# Altium integrated library Linear Technology Operational Amplifiers (LT1000).IntLib: 2280 symbols (part 19 of 79)
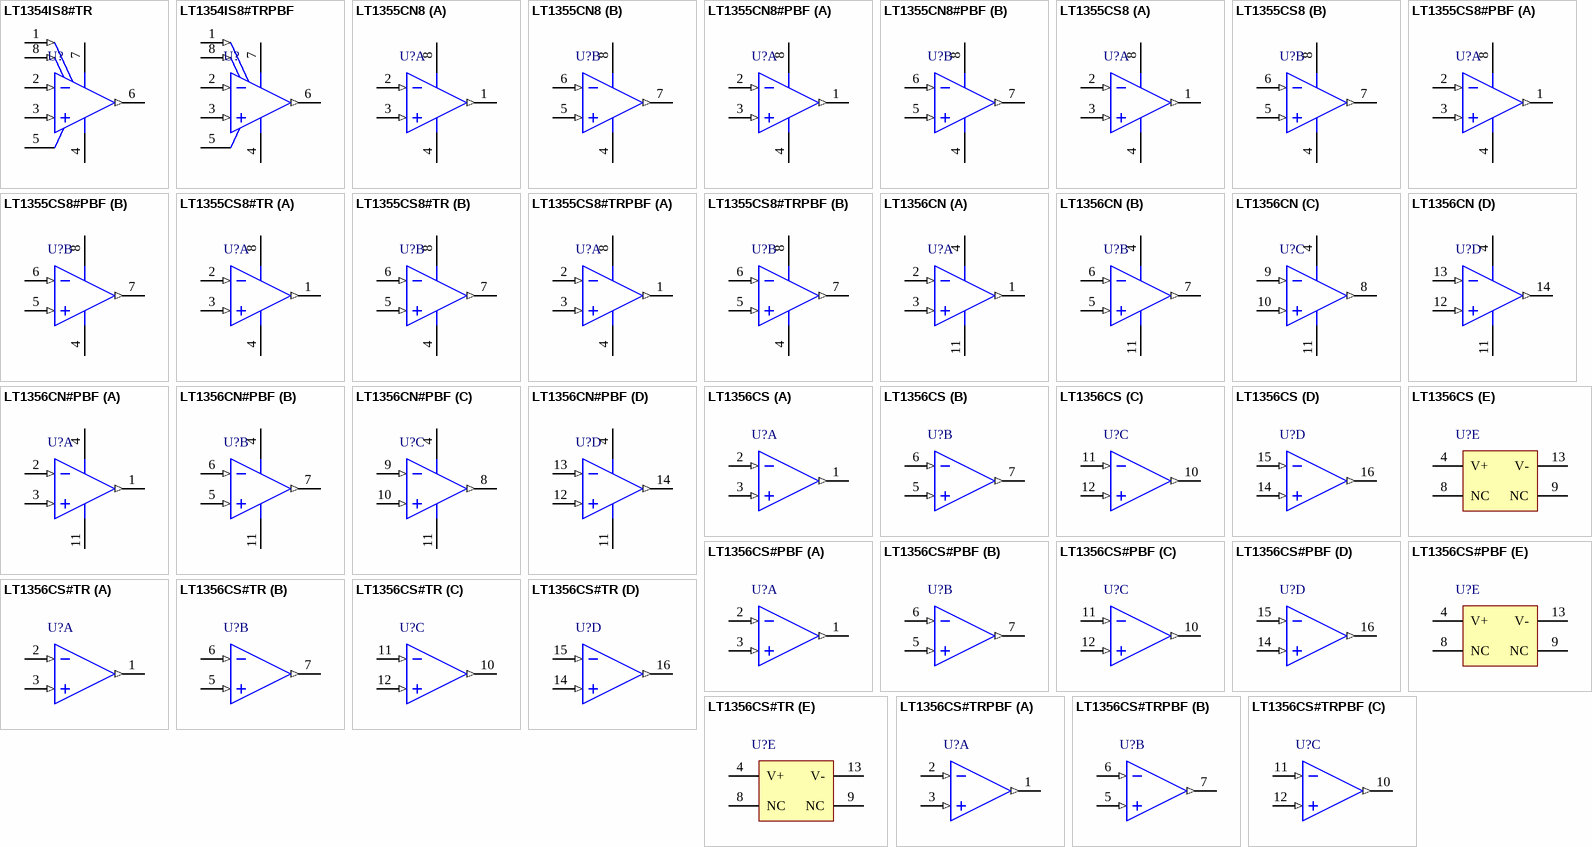
[diagram p123: symbols LT1354IS8#TR to LT1356CS#TRPBF]

## LT1356CN#PBF
designator U?
Quad Channel, High Speed Precision Operational Amplifier, 12 MHz Typical GBW, 400 V/us Typical SR, 5 to 36 V, 14-Pin DIP (N-14), Commerical, Pb-Free; Linear Technology Part Number: LT1356; Manufacturer: Linear Technology; PartNumber: LT1356CN#PBF; Channels (#): 4; GBW (MHz) Typical: 12; Is (mA) Typical: 1; SR (V/us) Typical: 400; Vos (mV) Typical: 0.8; Vs Max (V): 36; Vs Min (V): 5; DatasheetVersion: Rev. C; PackageVersion: Rev I; PackageReference: LT-N-14; PackageDescription: 14-Lead PDIP, Body 19.558 x 6.477 mm, Pitch 2.54 mm; Supplier 1: Digi-Key; Supplier Part Number 1: LT1356CN#PBF-ND; Supplier 2: Newark; Supplier Part Number 2: 57M3441; RoHS: Pb-Free; Type: VFB; Mounting Technology: Through Hole; ComponentLink1Description: Manufacturer URL; ComponentLink1URL: http://www.linear.com/; ComponentLink2Description: Datasheet; ComponentLink2URL: http://cds.linear.com/docs/en/datasheet/13556fc.pdf; ComponentLink3Description: Package Specification; ComponentLink3URL: http://cds.linear.com/docs/en/packaging/05081510_I_N14.pdf
footprint LT-N-14 (DIP, 14-Leads, Body 19.558x6.477mm, Pitch 2.54mm)
pins on every part: 4 V+ (power), 11 V- (power)
part A pins: 1 OUT A (out), 2 -IN A (in), 3 +IN A (in)
part B pins: 5 +IN B (in), 6 -IN B (in), 7 OUT B (out)
part C pins: 8 OUT C (out), 9 -IN C (in), 10 +IN C (in)
part D pins: 12 +IN D (in), 13 -IN D (in), 14 OUT D (out)

## LT1356CS
designator U?
Quad Channel, High Speed Precision Operational Amplifier, 12 MHz Typical GBW, 400 V/us Typical SR, 5 to 36 V, 16-Pin SOIC (S-16), Commercial; Linear Technology Part Number: LT1356; Manufacturer: Linear Technology; PartNumber: LT1356CS; Channels (#): 4; GBW (MHz) Typical: 12; Is (mA) Typical: 1; SR (V/us) Typical: 400; Vos (mV) Typical: 0.8; Vs Max (V): 36; Vs Min (V): 5; DatasheetVersion: Rev. C; PackageVersion: Rev G; PackageReference: LT-S-16; PackageDescription: 16-Lead Plastic Small Outline, Body 9.9 x 3.9 mm, Pitch 1.27 mm; Supplier 1: Digi-Key; Supplier Part Number 1: LT1356CS-ND; Supplier 2: Newark; Supplier Part Number 2: 57M3442; Type: VFB; Mounting Technology: Surface Mount; ComponentLink1Description: Manufacturer URL; ComponentLink1URL: http://www.linear.com/; ComponentLink2Description: Datasheet; ComponentLink2URL: http://cds.linear.com/docs/en/datasheet/13556fc.pdf; ComponentLink3Description: Package Specification; ComponentLink3URL: http://cds.linear.com/docs/en/packaging/S16%2005-08-1610%20Rev%20G.pdf
footprint LT-S-16_N (SOP, 16-Leads, Body 9.9x3.9mm, Pitch 1.27mm, IPC Medium Density)
footprint LT-S-16_L (SOP, 16-Leads, Body 9.9x3.9mm, Pitch 1.27mm, IPC High Density)
footprint LT-S-16_M (SOP, 16-Leads, Body 9.9x3.9mm, Pitch 1.27mm, IPC Low Density)
part A pins: 1 OUT A (out), 2 -IN A (in), 3 +IN A (in)
part B pins: 5 +IN B (in), 6 -IN B (in), 7 OUT B (out)
part C pins: 10 OUT C (out), 11 -IN C (in), 12 +IN C (in)
part D pins: 14 +IN D (in), 15 -IN D (in), 16 OUT D (out)
part E pins: 4 V+ (power), 8 NC, 9 NC, 13 V- (power)

## LT1356CS#PBF
designator U?
Quad Channel, High Speed Precision Operational Amplifier, 12 MHz Typical GBW, 400 V/us Typical SR, 5 to 36 V, 16-Pin SOP (S-16), Commercial, Pb-Free; Linear Technology Part Number: LT1356; Manufacturer: Linear Technology; PartNumber: LT1356CS#PBF; Channels (#): 4; GBW (MHz) Typical: 12; Is (mA) Typical: 1; SR (V/us) Typical: 400; Vos (mV) Typical: 0.8; Vs Max (V): 36; Vs Min (V): 5; DatasheetVersion: Rev. C; PackageVersion: Rev G; PackageReference: LT-S-16; PackageDescription: 16-Lead Plastic Small Outline, Body 9.9 x 3.9 mm, Pitch 1.27 mm; Supplier 1: Digi-Key; Supplier Part Number 1: LT1356CS#PBF-ND; Supplier 2: Farnell; Supplier Part Number 2: 2238151; Supplier 3: Newark; Supplier Part Number 3: 57M3443; RoHS: Pb-Free; Type: VFB; Mounting Technology: Surface Mount; ComponentLink1Description: Manufacturer URL; ComponentLink1URL: http://www.linear.com/; ComponentLink2Description: Datasheet; ComponentLink2URL: http://cds.linear.com/docs/en/datasheet/13556fc.pdf; ComponentLink3Description: Package Specification; ComponentLink3URL: http://cds.linear.com/docs/en/packaging/S16%2005-08-1610%20Rev%20G.pdf
footprint LT-S-16_N (SOP, 16-Leads, Body 9.9x3.9mm, Pitch 1.27mm, IPC Medium Density)
footprint LT-S-16_L (SOP, 16-Leads, Body 9.9x3.9mm, Pitch 1.27mm, IPC High Density)
footprint LT-S-16_M (SOP, 16-Leads, Body 9.9x3.9mm, Pitch 1.27mm, IPC Low Density)
part A pins: 1 OUT A (out), 2 -IN A (in), 3 +IN A (in)
part B pins: 5 +IN B (in), 6 -IN B (in), 7 OUT B (out)
part C pins: 10 OUT C (out), 11 -IN C (in), 12 +IN C (in)
part D pins: 14 +IN D (in), 15 -IN D (in), 16 OUT D (out)
part E pins: 4 V+ (power), 8 NC, 9 NC, 13 V- (power)

## LT1356CS#TR
designator U?
Quad Channel, High Speed Precision Operational Amplifier, 12 MHz Typical GBW, 400 V/us Typical SR, 5 to 36 V, 16-Pin SOIC (S-16), Commercial, Reel; Linear Technology Part Number: LT1356; Manufacturer: Linear Technology; PartNumber: LT1356CS#TR; Channels (#): 4; GBW (MHz) Typical: 12; Is (mA) Typical: 1; SR (V/us) Typical: 400; Vos (mV) Typical: 0.8; Vs Max (V): 36; Vs Min (V): 5; DatasheetVersion: Rev. C; PackageVersion: Rev G; PackageReference: LT-S-16; PackageDescription: 16-Lead Plastic Small Outline, Body 9.9 x 3.9 mm, Pitch 1.27 mm; Supplier 1: Digi-Key; Supplier Part Number 1: LT1356CS#TR-ND; Packing: Reel; Type: VFB; Mounting Technology: Surface Mount; ComponentLink1Description: Manufacturer URL; ComponentLink1URL: http://www.linear.com/; ComponentLink2Description: Datasheet; ComponentLink2URL: http://cds.linear.com/docs/en/datasheet/13556fc.pdf; ComponentLink3Description: Package Specification; ComponentLink3URL: http://cds.linear.com/docs/en/packaging/S16%2005-08-1610%20Rev%20G.pdf
footprint LT-S-16_N (SOP, 16-Leads, Body 9.9x3.9mm, Pitch 1.27mm, IPC Medium Density)
footprint LT-S-16_L (SOP, 16-Leads, Body 9.9x3.9mm, Pitch 1.27mm, IPC High Density)
footprint LT-S-16_M (SOP, 16-Leads, Body 9.9x3.9mm, Pitch 1.27mm, IPC Low Density)
part A pins: 1 OUT A (out), 2 -IN A (in), 3 +IN A (in)
part B pins: 5 +IN B (in), 6 -IN B (in), 7 OUT B (out)
part C pins: 10 OUT C (out), 11 -IN C (in), 12 +IN C (in)
part D pins: 14 +IN D (in), 15 -IN D (in), 16 OUT D (out)
part E pins: 4 V+ (power), 8 NC, 9 NC, 13 V- (power)

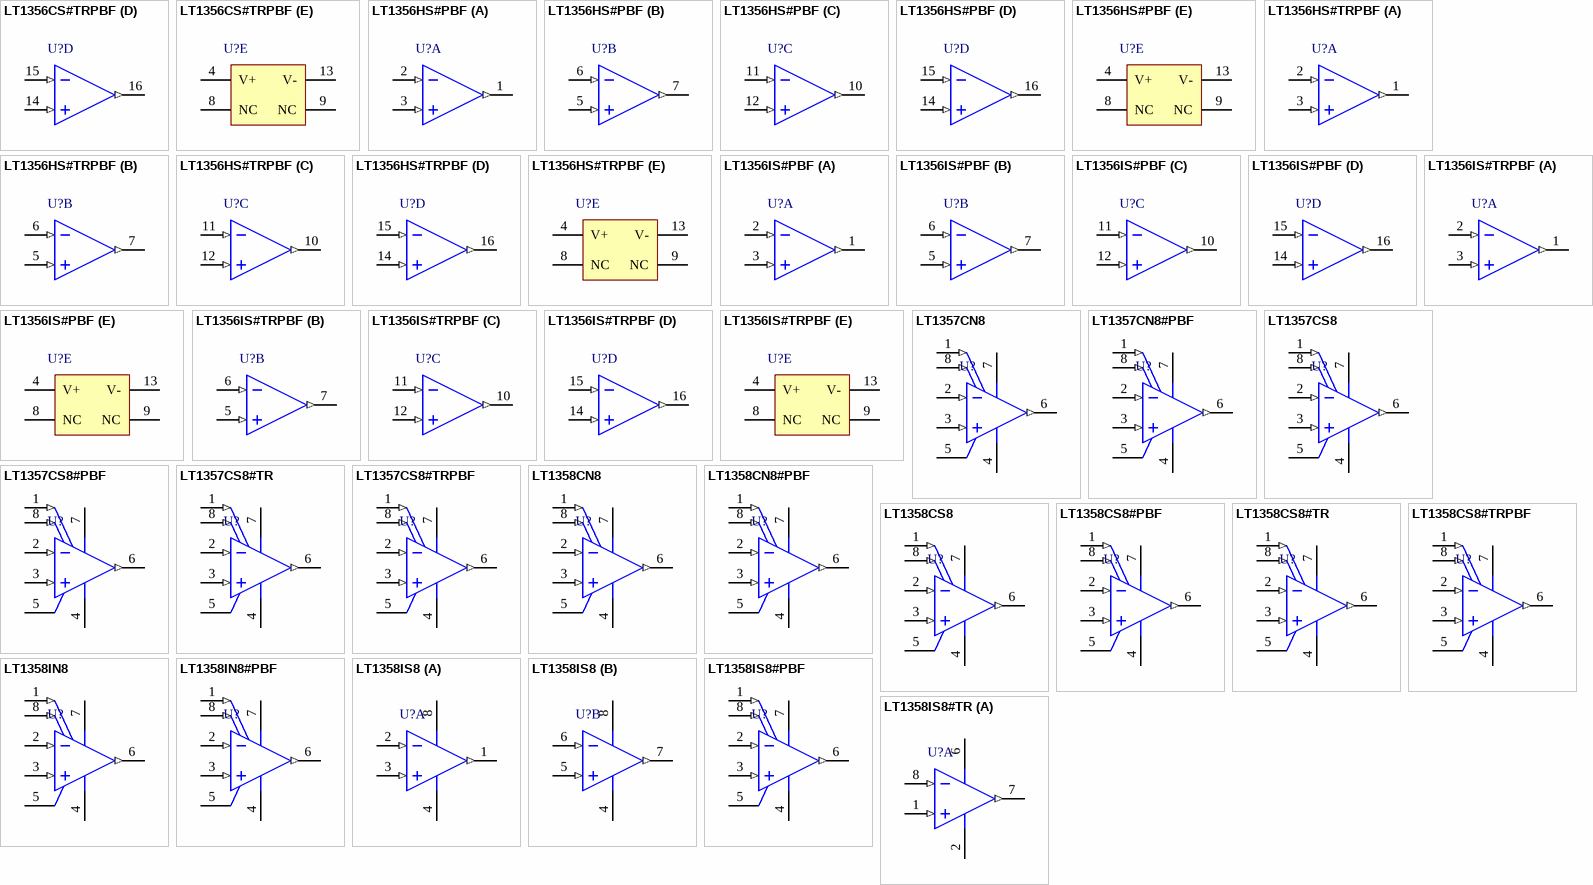
[diagram p27: symbols LT1356CS#TRPBF to LT1358IS8#TR]

## LT1356CS#TRPBF
designator U?
Quad Channel, High Speed Precision Operational Amplifier, 12 MHz Typical GBW, 400 V/us Typical SR, 5 to 36 V, 16-Pin SOIC (S-16), Commercial, Pb-Free, Reel; Linear Technology Part Number: LT1356; Manufacturer: Linear Technology; PartNumber: LT1356CS#TRPBF; Channels (#): 4; GBW (MHz) Typical: 12; Is (mA) Typical: 1; SR (V/us) Typical: 400; Vos (mV) Typical: 0.8; Vs Max (V): 36; Vs Min (V): 5; DatasheetVersion: Rev. C; PackageVersion: Rev G; PackageReference: LT-S-16; PackageDescription: 16-Lead Plastic Small Outline, Body 9.9 x 3.9 mm, Pitch 1.27 mm; Supplier 1: Digi-Key; Supplier Part Number 1: LT1356CS#TRPBF-ND; Packing: Reel; RoHS: Pb-Free; Type: VFB; Mounting Technology: Surface Mount; ComponentLink1Description: Manufacturer URL; ComponentLink1URL: http://www.linear.com/; ComponentLink2Description: Datasheet; ComponentLink2URL: http://cds.linear.com/docs/en/datasheet/13556fc.pdf; ComponentLink3Description: Package Specification; ComponentLink3URL: http://cds.linear.com/docs/en/packaging/S16%2005-08-1610%20Rev%20G.pdf
footprint LT-S-16_N (SOP, 16-Leads, Body 9.9x3.9mm, Pitch 1.27mm, IPC Medium Density)
footprint LT-S-16_L (SOP, 16-Leads, Body 9.9x3.9mm, Pitch 1.27mm, IPC High Density)
footprint LT-S-16_M (SOP, 16-Leads, Body 9.9x3.9mm, Pitch 1.27mm, IPC Low Density)
part A pins: 1 OUT A (out), 2 -IN A (in), 3 +IN A (in)
part B pins: 5 +IN B (in), 6 -IN B (in), 7 OUT B (out)
part C pins: 10 OUT C (out), 11 -IN C (in), 12 +IN C (in)
part D pins: 14 +IN D (in), 15 -IN D (in), 16 OUT D (out)
part E pins: 4 V+ (power), 8 NC, 9 NC, 13 V- (power)

## LT1356HS#PBF
designator U?
Quad Channel, High Speed Precision Operational Amplifier, 12 MHz Typical GBW, 400 V/us Typical SR, 5 to 36 V, 16-Pin SOIC (S-16), High Temperature / Automotive, Pb-Free; Linear Technology Part Number: LT1356; Manufacturer: Linear Technology; PartNumber: LT1356HS#PBF; Channels (#): 4; GBW (MHz) Typical: 12; Is (mA) Typical: 1; SR (V/us) Typical: 400; Vos (mV) Typical: 0.8; Vs Max (V): 36; Vs Min (V): 5; DatasheetVersion: Rev. C; PackageVersion: Rev G; PackageReference: LT-S-16; PackageDescription: 16-Lead Plastic Small Outline, Body 9.9 x 3.9 mm, Pitch 1.27 mm; Supplier 1: Digi-Key; Supplier Part Number 1: LT1356HS#PBF-ND; Supplier 2: Newark; Supplier Part Number 2: 94T1333; RoHS: Pb-Free; Type: VFB; Mounting Technology: Surface Mount; ComponentLink1Description: Manufacturer URL; ComponentLink1URL: http://www.linear.com/; ComponentLink2Description: Datasheet; ComponentLink2URL: http://cds.linear.com/docs/en/datasheet/13556fc.pdf; ComponentLink3Description: Package Specification; ComponentLink3URL: http://cds.linear.com/docs/en/packaging/S16%2005-08-1610%20Rev%20G.pdf
footprint LT-S-16_N (SOP, 16-Leads, Body 9.9x3.9mm, Pitch 1.27mm, IPC Medium Density)
footprint LT-S-16_L (SOP, 16-Leads, Body 9.9x3.9mm, Pitch 1.27mm, IPC High Density)
footprint LT-S-16_M (SOP, 16-Leads, Body 9.9x3.9mm, Pitch 1.27mm, IPC Low Density)
part A pins: 1 OUT A (out), 2 -IN A (in), 3 +IN A (in)
part B pins: 5 +IN B (in), 6 -IN B (in), 7 OUT B (out)
part C pins: 10 OUT C (out), 11 -IN C (in), 12 +IN C (in)
part D pins: 14 +IN D (in), 15 -IN D (in), 16 OUT D (out)
part E pins: 4 V+ (power), 8 NC, 9 NC, 13 V- (power)

## LT1356HS#TRPBF
designator U?
Quad Channel, High Speed Precision Operational Amplifier, 12 MHz Typical GBW, 400 V/us Typical SR, 5 to 36 V, 16-Pin SOIC (S-16), High Temperature / Automotive, Pb-Free, Reel; Linear Technology Part Number: LT1356; Manufacturer: Linear Technology; PartNumber: LT1356HS#TRPBF; Channels (#): 4; GBW (MHz) Typical: 12; Is (mA) Typical: 1; SR (V/us) Typical: 400; Vos (mV) Typical: 0.8; Vs Max (V): 36; Vs Min (V): 5; DatasheetVersion: Rev. C; PackageVersion: Rev G; PackageReference: LT-S-16; PackageDescription: 16-Lead Plastic Small Outline, Body 9.9 x 3.9 mm, Pitch 1.27 mm; Supplier 1: Digi-Key; Supplier Part Number 1: LT1356HS#TRPBF-ND; Packing: Reel; RoHS: Pb-Free; Type: VFB; Mounting Technology: Surface Mount; ComponentLink1Description: Manufacturer URL; ComponentLink1URL: http://www.linear.com/; ComponentLink2Description: Datasheet; ComponentLink2URL: http://cds.linear.com/docs/en/datasheet/13556fc.pdf; ComponentLink3Description: Package Specification; ComponentLink3URL: http://cds.linear.com/docs/en/packaging/S16%2005-08-1610%20Rev%20G.pdf
footprint LT-S-16_N (SOP, 16-Leads, Body 9.9x3.9mm, Pitch 1.27mm, IPC Medium Density)
footprint LT-S-16_L (SOP, 16-Leads, Body 9.9x3.9mm, Pitch 1.27mm, IPC High Density)
footprint LT-S-16_M (SOP, 16-Leads, Body 9.9x3.9mm, Pitch 1.27mm, IPC Low Density)
part A pins: 1 OUT A (out), 2 -IN A (in), 3 +IN A (in)
part B pins: 5 +IN B (in), 6 -IN B (in), 7 OUT B (out)
part C pins: 10 OUT C (out), 11 -IN C (in), 12 +IN C (in)
part D pins: 14 +IN D (in), 15 -IN D (in), 16 OUT D (out)
part E pins: 4 V+ (power), 8 NC, 9 NC, 13 V- (power)

## LT1356IS#PBF
designator U?
Quad Channel, High Speed Precision Operational Amplifier, 12 MHz Typical GBW, 400 V/us Typical SR, 5 to 36 V, 16-Pin SOIC (S-16), Industrial, Pb-Free; Linear Technology Part Number: LT1356; Manufacturer: Linear Technology; PartNumber: LT1356IS#PBF; Channels (#): 4; GBW (MHz) Typical: 12; Is (mA) Typical: 1; SR (V/us) Typical: 400; Vos (mV) Typical: 0.8; Vs Max (V): 36; Vs Min (V): 5; DatasheetVersion: Rev. C; PackageVersion: Rev G; PackageReference: LT-S-16; PackageDescription: 16-Lead Plastic Small Outline, Body 9.9 x 3.9 mm, Pitch 1.27 mm; Supplier 1: Digi-Key; Supplier Part Number 1: LT1356IS#PBF-ND; RoHS: Pb-Free; Type: VFB; Mounting Technology: Surface Mount; ComponentLink1Description: Manufacturer URL; ComponentLink1URL: http://www.linear.com/; ComponentLink2Description: Datasheet; ComponentLink2URL: http://cds.linear.com/docs/en/datasheet/13556fc.pdf; ComponentLink3Description: Package Specification; ComponentLink3URL: http://cds.linear.com/docs/en/packaging/S16%2005-08-1610%20Rev%20G.pdf
footprint LT-S-16_N (SOP, 16-Leads, Body 9.9x3.9mm, Pitch 1.27mm, IPC Medium Density)
footprint LT-S-16_L (SOP, 16-Leads, Body 9.9x3.9mm, Pitch 1.27mm, IPC High Density)
footprint LT-S-16_M (SOP, 16-Leads, Body 9.9x3.9mm, Pitch 1.27mm, IPC Low Density)
part A pins: 1 OUT A (out), 2 -IN A (in), 3 +IN A (in)
part B pins: 5 +IN B (in), 6 -IN B (in), 7 OUT B (out)
part C pins: 10 OUT C (out), 11 -IN C (in), 12 +IN C (in)
part D pins: 14 +IN D (in), 15 -IN D (in), 16 OUT D (out)
part E pins: 4 V+ (power), 8 NC, 9 NC, 13 V- (power)

## LT1356IS#TRPBF
designator U?
Quad Channel, High Speed Precision Operational Amplifier, 12 MHz Typical GBW, 400 V/us Typical SR, 5 to 36 V, 16-Pin SOIC (S-16), Industrial, Pb-Free, Reel; Linear Technology Part Number: LT1356; Manufacturer: Linear Technology; PartNumber: LT1356IS#TRPBF; Channels (#): 4; GBW (MHz) Typical: 12; Is (mA) Typical: 1; SR (V/us) Typical: 400; Vos (mV) Typical: 0.8; Vs Max (V): 36; Vs Min (V): 5; DatasheetVersion: Rev. C; PackageVersion: Rev G; PackageReference: LT-S-16; PackageDescription: 16-Lead Plastic Small Outline, Body 9.9 x 3.9 mm, Pitch 1.27 mm; Supplier 1: Digi-Key; Supplier Part Number 1: LT1356IS#TRPBF-ND; Packing: Reel; RoHS: Pb-Free; Type: VFB; Mounting Technology: Surface Mount; ComponentLink1Description: Manufacturer URL; ComponentLink1URL: http://www.linear.com/; ComponentLink2Description: Datasheet; ComponentLink2URL: http://cds.linear.com/docs/en/datasheet/13556fc.pdf; ComponentLink3Description: Package Specification; ComponentLink3URL: http://cds.linear.com/docs/en/packaging/S16%2005-08-1610%20Rev%20G.pdf
footprint LT-S-16_N (SOP, 16-Leads, Body 9.9x3.9mm, Pitch 1.27mm, IPC Medium Density)
footprint LT-S-16_L (SOP, 16-Leads, Body 9.9x3.9mm, Pitch 1.27mm, IPC High Density)
footprint LT-S-16_M (SOP, 16-Leads, Body 9.9x3.9mm, Pitch 1.27mm, IPC Low Density)
part A pins: 1 OUT A (out), 2 -IN A (in), 3 +IN A (in)
part B pins: 5 +IN B (in), 6 -IN B (in), 7 OUT B (out)
part C pins: 10 OUT C (out), 11 -IN C (in), 12 +IN C (in)
part D pins: 14 +IN D (in), 15 -IN D (in), 16 OUT D (out)
part E pins: 4 V+ (power), 8 NC, 9 NC, 13 V- (power)

## LT1357CN8
designator U?
Single Channel, High Speed Precision Operational Amplifier, 25 MHz Typical GBW, 600 V/us Typical SR, 5 to 36 V, 8-Pin DIP (N8-8), Commerical; Linear Technology Part Number: LT1357; Manufacturer: Linear Technology; PartNumber: LT1357CN8; Channels (#): 1; GBW (MHz) Typical: 25; Is (mA) Typical: 2; SR (V/us) Typical: 600; Vos (mV) Typical: 0.2; Vs Max (V): 36; Vs Min (V): 5; DatasheetVersion: Rev. A; PackageVersion: Rev I; PackageReference: LT-N8-8; PackageDescription: 8-Lead PDIP, Body 10.16 x 6.48 mm, Pitch 2.54 mm; Supplier 1: Digi-Key; Supplier Part Number 1: LT1357CN8-ND; Type: VFB; Mounting Technology: Surface Mount; ComponentLink1Description: Manufacturer URL; ComponentLink1URL: http://www.linear.com/; ComponentLink2Description: Datasheet; ComponentLink2URL: http://cds.linear.com/docs/en/datasheet/1357fa.pdf; ComponentLink3Description: Package Specification; ComponentLink3URL: http://cds.linear.com/docs/en/packaging/05081510_I_N8.pdf
footprint LT-N8-8 (DIP, 8-Leads, Body 10.16x6.48mm, Pitch 2.54mm)
pins: 1 NULL (in), 2 -IN (in), 3 +IN (in), 4 V- (power), 5 NC, 6 VOUT (out), 7 V+ (power), 8 NULL (in)

## LT1357CN8#PBF
designator U?
Single Channel, High Speed Precision Operational Amplifier, 25 MHz Typical GBW, 600 V/us Typical SR, 5 to 36 V, 8-Pin DIP (N8-8), Commerical, Pb-Free; Linear Technology Part Number: LT1357; Manufacturer: Linear Technology; PartNumber: LT1357CN8#PBF; Channels (#): 1; GBW (MHz) Typical: 25; Is (mA) Typical: 2; SR (V/us) Typical: 600; Vos (mV) Typical: 0.2; Vs Max (V): 36; Vs Min (V): 5; DatasheetVersion: Rev. A; PackageVersion: Rev I; PackageReference: LT-N8-8; PackageDescription: 8-Lead PDIP, Body 10.16 x 6.48 mm, Pitch 2.54 mm; Supplier 1: Digi-Key; Supplier Part Number 1: LT1357CN8#PBF-ND; Supplier 2: Farnell; Supplier Part Number 2: 9560432; Supplier 3: Newark; Supplier Part Number 3: 57M3447; RoHS: Pb-Free; Type: VFB; Mounting Technology: Through Hole; ComponentLink1Description: Manufacturer URL; ComponentLink1URL: http://www.linear.com/; ComponentLink2Description: Datasheet; ComponentLink2URL: http://cds.linear.com/docs/en/datasheet/1357fa.pdf; ComponentLink3Description: Package Specification; ComponentLink3URL: http://cds.linear.com/docs/en/packaging/05081510_I_N8.pdf
footprint LT-N8-8 (DIP, 8-Leads, Body 10.16x6.48mm, Pitch 2.54mm)
pins: 1 NULL (in), 2 -IN (in), 3 +IN (in), 4 V- (power), 5 NC, 6 VOUT (out), 7 V+ (power), 8 NULL (in)

## LT1357CS8
designator U?
Single Channel, High Speed Precision Operational Amplifier, 25 MHz Typical GBW, 600 V/us Typical SR, 5 to 36 V, 8-Pin SOIC (S8-8), Commerical; Linear Technology Part Number: LT1357; Manufacturer: Linear Technology; PartNumber: LT1357CS8; Channels (#): 1; GBW (MHz) Typical: 25; Is (mA) Typical: 2; SR (V/us) Typical: 600; Vos (mV) Typical: 0.2; Vs Max (V): 36; Vs Min (V): 5; DatasheetVersion: Rev. A; PackageVersion: Rev G; PackageReference: LT-S8-8; PackageDescription: 8-Pin Plastic Small Outline, Body 4.9 x 3.9 mm, Pitch 1.27 mm; Supplier 1: Digi-Key; Supplier Part Number 1: LT1357CS8-ND; Supplier 2: Newark; Supplier Part Number 2: 57M3448; Type: VFB; Mounting Technology: Surface Mount; ComponentLink1Description: Manufacturer URL; ComponentLink1URL: http://www.linear.com/; ComponentLink2Description: Datasheet; ComponentLink2URL: http://cds.linear.com/docs/en/datasheet/1357fa.pdf; ComponentLink3Description: Package Specification; ComponentLink3URL: http://cds.linear.com/docs/en/packaging/05081610_G_SO8.pdf
footprint LT-S8-8_N (SOIC, 8-Leads, Body 4.9x3.9mm, Pitch 1.27mm, IPC Medium Density)
footprint LT-S8-8_L (SOIC, 8-Leads, Body 4.9x3.9mm, Pitch 1.27mm, IPC High Density)
footprint LT-S8-8_M (SOIC, 8-Leads, Body 4.9x3.9mm, Pitch 1.27mm, IPC Low Density)
pins: 1 NULL (in), 2 -IN (in), 3 +IN (in), 4 V- (power), 5 NC, 6 VOUT (out), 7 V+ (power), 8 NULL (in)

## LT1357CS8#PBF
designator U?
Single Channel, High Speed Precision Operational Amplifier, 25 MHz Typical GBW, 600 V/us Typical SR, 5 to 36 V, 8-Pin SOIC (S8-8), Commerical, Pb-Free; Linear Technology Part Number: LT1357; Manufacturer: Linear Technology; PartNumber: LT1357CS8#PBF; Channels (#): 1; GBW (MHz) Typical: 25; Is (mA) Typical: 2; SR (V/us) Typical: 600; Vos (mV) Typical: 0.2; Vs Max (V): 36; Vs Min (V): 5; DatasheetVersion: Rev. A; PackageVersion: Rev G; PackageReference: LT-S8-8; PackageDescription: 8-Pin Plastic Small Outline, Body 4.9 x 3.9 mm, Pitch 1.27 mm; Supplier 1: Digi-Key; Supplier Part Number 1: LT1357CS8#PBF-ND; Supplier 2: Farnell; Supplier Part Number 2: 9560440; Supplier 3: Newark; Supplier Part Number 3: 57M3449; RoHS: Pb-Free; Type: VFB; Mounting Technology: Surface Mount; ComponentLink1Description: Manufacturer URL; ComponentLink1URL: http://www.linear.com/; ComponentLink2Description: Datasheet; ComponentLink2URL: http://cds.linear.com/docs/en/datasheet/1357fa.pdf; ComponentLink3Description: Package Specification; ComponentLink3URL: http://cds.linear.com/docs/en/packaging/05081610_G_SO8.pdf
footprint LT-S8-8_N (SOIC, 8-Leads, Body 4.9x3.9mm, Pitch 1.27mm, IPC Medium Density)
footprint LT-S8-8_L (SOIC, 8-Leads, Body 4.9x3.9mm, Pitch 1.27mm, IPC High Density)
footprint LT-S8-8_M (SOIC, 8-Leads, Body 4.9x3.9mm, Pitch 1.27mm, IPC Low Density)
pins: 1 NULL (in), 2 -IN (in), 3 +IN (in), 4 V- (power), 5 NC, 6 VOUT (out), 7 V+ (power), 8 NULL (in)

## LT1357CS8#TR
designator U?
Single Channel, High Speed Precision Operational Amplifier, 25 MHz Typical GBW, 600 V/us Typical SR, 5 to 36 V, 8-Pin SOIC (S8-8), Commerical, Reel; Linear Technology Part Number: LT1357; Manufacturer: Linear Technology; PartNumber: LT1357CS8#TR; Channels (#): 1; GBW (MHz) Typical: 25; Is (mA) Typical: 2; SR (V/us) Typical: 600; Vos (mV) Typical: 0.2; Vs Max (V): 36; Vs Min (V): 5; DatasheetVersion: Rev. A; PackageVersion: Rev G; PackageReference: LT-S8-8; PackageDescription: 8-Pin Plastic Small Outline, Body 4.9 x 3.9 mm, Pitch 1.27 mm; Supplier 1: Digi-Key; Supplier Part Number 1: LT1357CS8#TR-ND; Packing: Reel; Type: VFB; Mounting Technology: Surface Mount; ComponentLink1Description: Manufacturer URL; ComponentLink1URL: http://www.linear.com/; ComponentLink2Description: Datasheet; ComponentLink2URL: http://cds.linear.com/docs/en/datasheet/1357fa.pdf; ComponentLink3Description: Package Specification; ComponentLink3URL: http://cds.linear.com/docs/en/packaging/05081610_G_SO8.pdf
footprint LT-S8-8_N (SOIC, 8-Leads, Body 4.9x3.9mm, Pitch 1.27mm, IPC Medium Density)
footprint LT-S8-8_L (SOIC, 8-Leads, Body 4.9x3.9mm, Pitch 1.27mm, IPC High Density)
footprint LT-S8-8_M (SOIC, 8-Leads, Body 4.9x3.9mm, Pitch 1.27mm, IPC Low Density)
pins: 1 NULL (in), 2 -IN (in), 3 +IN (in), 4 V- (power), 5 NC, 6 VOUT (out), 7 V+ (power), 8 NULL (in)

## LT1357CS8#TRPBF
designator U?
Single Channel, High Speed Precision Operational Amplifier, 25 MHz Typical GBW, 600 V/us Typical SR, 5 to 36 V, 8-Pin SOIC (S8-8), Commerical, Pb-Free, Reel; Linear Technology Part Number: LT1357; Manufacturer: Linear Technology; PartNumber: LT1357CS8#TRPBF; Channels (#): 1; GBW (MHz) Typical: 25; Is (mA) Typical: 2; SR (V/us) Typical: 600; Vos (mV) Typical: 0.2; Vs Max (V): 36; Vs Min (V): 5; DatasheetVersion: Rev. A; PackageVersion: Rev G; PackageReference: LT-S8-8; PackageDescription: 8-Pin Plastic Small Outline, Body 4.9 x 3.9 mm, Pitch 1.27 mm; Supplier 1: Digi-Key; Supplier Part Number 1: LT1357CS8#TRPBF-ND; Supplier 2: Newark; Supplier Part Number 2: 57M3451; Packing: Reel; RoHS: Pb-Free; Type: VFB; Mounting Technology: Surface Mount; ComponentLink1Description: Manufacturer URL; ComponentLink1URL: http://www.linear.com/; ComponentLink2Description: Datasheet; ComponentLink2URL: http://cds.linear.com/docs/en/datasheet/1357fa.pdf; ComponentLink3Description: Package Specification; ComponentLink3URL: http://cds.linear.com/docs/en/packaging/05081610_G_SO8.pdf
footprint LT-S8-8_N (SOIC, 8-Leads, Body 4.9x3.9mm, Pitch 1.27mm, IPC Medium Density)
footprint LT-S8-8_L (SOIC, 8-Leads, Body 4.9x3.9mm, Pitch 1.27mm, IPC High Density)
footprint LT-S8-8_M (SOIC, 8-Leads, Body 4.9x3.9mm, Pitch 1.27mm, IPC Low Density)
pins: 1 NULL (in), 2 -IN (in), 3 +IN (in), 4 V- (power), 5 NC, 6 VOUT (out), 7 V+ (power), 8 NULL (in)

## LT1358CN8
designator U?
Dual Channel, High Speed Precision Operational Amplifier, 25 MHz Typical GBW, 600 V/us Typical SR, 5 to 36 V, 8-Pin DIP (N8-8), Commerical; Linear Technology Part Number: LT1358; Manufacturer: Linear Technology; PartNumber: LT1358CN8; Channels (#): 2; GBW (MHz) Typical: 25; SR (V/us) Typical: 600; Vos (mV) Typical: 0.2; Vs Max (V): 36; Vs Min (V): 5; DatasheetVersion: Rev. B; PackageVersion: Rev I; PackageReference: LT-N8-8; PackageDescription: 8-Lead PDIP, Body 10.16 x 6.48 mm, Pitch 2.54 mm; Supplier 1: Digi-Key; Supplier Part Number 1: LT1358CN8-ND; Is (mA) Typical: 2; Type: VFB; Mounting Technology: Surface Mount; ComponentLink1Description: Manufacturer URL; ComponentLink1URL: http://www.linear.com/; ComponentLink2Description: Datasheet; ComponentLink2URL: http://cds.linear.com/docs/en/datasheet/135859fb.pdf; ComponentLink3Description: Package Specification; ComponentLink3URL: http://cds.linear.com/docs/en/packaging/05081510_I_N8.pdf
footprint LT-N8-8 (DIP, 8-Leads, Body 10.16x6.48mm, Pitch 2.54mm)
pins: 1 NULL (in), 2 -IN (in), 3 +IN (in), 4 V- (power), 5 NC, 6 VOUT (out), 7 V+ (power), 8 NULL (in)

## LT1358CN8#PBF
designator U?
Dual Channel, High Speed Precision Operational Amplifier, 25 MHz Typical GBW, 600 V/us Typical SR, 5 to 36 V, 8-Pin DIP (N8-8), Commerical, Pb-Free; Linear Technology Part Number: LT1358; Manufacturer: Linear Technology; PartNumber: LT1358CN8#PBF; Channels (#): 2; GBW (MHz) Typical: 25; SR (V/us) Typical: 600; Vos (mV) Typical: 0.2; Vs Max (V): 36; Vs Min (V): 5; DatasheetVersion: Rev. B; PackageVersion: Rev I; PackageReference: LT-N8-8; PackageDescription: 8-Lead PDIP, Body 10.16 x 6.48 mm, Pitch 2.54 mm; Supplier 1: Digi-Key; Supplier Part Number 1: LT1358CN8#PBF-ND; Supplier 2: Farnell; Supplier Part Number 2: 1330637; Supplier 3: Newark; Supplier Part Number 3: 57M3453; Is (mA) Typical: 2; RoHS: Pb-Free; Type: VFB; Mounting Technology: Through Hole; ComponentLink1Description: Manufacturer URL; ComponentLink1URL: http://www.linear.com/; ComponentLink2Description: Datasheet; ComponentLink2URL: http://cds.linear.com/docs/en/datasheet/135859fb.pdf; ComponentLink3Description: Package Specification; ComponentLink3URL: http://cds.linear.com/docs/en/packaging/05081510_I_N8.pdf
footprint LT-N8-8 (DIP, 8-Leads, Body 10.16x6.48mm, Pitch 2.54mm)
pins: 1 NULL (in), 2 -IN (in), 3 +IN (in), 4 V- (power), 5 NC, 6 VOUT (out), 7 V+ (power), 8 NULL (in)

## LT1358CS8
designator U?
Dual Channel, High Speed Precision Operational Amplifier, 25 MHz Typical GBW, 600 V/us Typical SR, 5 to 36 V, 8-Pin SOIC (S8-8), Commerical; Linear Technology Part Number: LT1358; Manufacturer: Linear Technology; PartNumber: LT1358CS8; Channels (#): 2; GBW (MHz) Typical: 25; SR (V/us) Typical: 600; Vos (mV) Typical: 0.2; Vs Max (V): 36; Vs Min (V): 5; DatasheetVersion: Rev. B; PackageVersion: Rev G; PackageReference: LT-S8-8; PackageDescription: 8-Pin Plastic Small Outline, Body 4.9 x 3.9 mm, Pitch 1.27 mm; Supplier 1: Digi-Key; Supplier Part Number 1: LT1358CS8-ND; Supplier 2: Newark; Supplier Part Number 2: 57M3454; Is (mA) Typical: 2; Type: VFB; Mounting Technology: Surface Mount; ComponentLink1Description: Manufacturer URL; ComponentLink1URL: http://www.linear.com/; ComponentLink2Description: Datasheet; ComponentLink2URL: http://cds.linear.com/docs/en/datasheet/135859fb.pdf; ComponentLink3Description: Package Specification; ComponentLink3URL: http://cds.linear.com/docs/en/packaging/05081610_G_SO8.pdf
footprint LT-S8-8_N (SOIC, 8-Leads, Body 4.9x3.9mm, Pitch 1.27mm, IPC Medium Density)
footprint LT-S8-8_L (SOIC, 8-Leads, Body 4.9x3.9mm, Pitch 1.27mm, IPC High Density)
footprint LT-S8-8_M (SOIC, 8-Leads, Body 4.9x3.9mm, Pitch 1.27mm, IPC Low Density)
pins: 1 NULL (in), 2 -IN (in), 3 +IN (in), 4 V- (power), 5 NC, 6 VOUT (out), 7 V+ (power), 8 NULL (in)

## LT1358CS8#PBF
designator U?
Dual Channel, High Speed Precision Operational Amplifier, 25 MHz Typical GBW, 600 V/us Typical SR, 5 to 36 V, 8-Pin SOIC (S8-8), Commerical, Pb-Free; Linear Technology Part Number: LT1358; Manufacturer: Linear Technology; PartNumber: LT1358CS8#PBF; Channels (#): 2; GBW (MHz) Typical: 25; SR (V/us) Typical: 600; Vos (mV) Typical: 0.2; Vs Max (V): 36; Vs Min (V): 5; DatasheetVersion: Rev. B; PackageVersion: Rev G; PackageReference: LT-S8-8; PackageDescription: 8-Pin Plastic Small Outline, Body 4.9 x 3.9 mm, Pitch 1.27 mm; Supplier 1: Digi-Key; Supplier Part Number 1: LT1358CS8#PBF-ND; Supplier 2: Farnell; Supplier Part Number 2: 2102595; Supplier 3: Newark; Supplier Part Number 3: 57M3455; Is (mA) Typical: 2; RoHS: Pb-Free; Type: VFB; Mounting Technology: Surface Mount; ComponentLink1Description: Manufacturer URL; ComponentLink1URL: http://www.linear.com/; ComponentLink2Description: Datasheet; ComponentLink2URL: http://cds.linear.com/docs/en/datasheet/135859fb.pdf; ComponentLink3Description: Package Specification; ComponentLink3URL: http://cds.linear.com/docs/en/packaging/05081610_G_SO8.pdf
footprint LT-S8-8_N (SOIC, 8-Leads, Body 4.9x3.9mm, Pitch 1.27mm, IPC Medium Density)
footprint LT-S8-8_L (SOIC, 8-Leads, Body 4.9x3.9mm, Pitch 1.27mm, IPC High Density)
footprint LT-S8-8_M (SOIC, 8-Leads, Body 4.9x3.9mm, Pitch 1.27mm, IPC Low Density)
pins: 1 NULL (in), 2 -IN (in), 3 +IN (in), 4 V- (power), 5 NC, 6 VOUT (out), 7 V+ (power), 8 NULL (in)

## LT1358CS8#TR
designator U?
Dual Channel, High Speed Precision Operational Amplifier, 25 MHz Typical GBW, 600 V/us Typical SR, 5 to 36 V, 8-Pin SOIC (S8-8), Commerical, Reel; Linear Technology Part Number: LT1358; Manufacturer: Linear Technology; PartNumber: LT1358CS8#TR; Channels (#): 2; GBW (MHz) Typical: 25; SR (V/us) Typical: 600; Vos (mV) Typical: 0.2; Vs Max (V): 36; Vs Min (V): 5; DatasheetVersion: Rev. B; PackageVersion: Rev G; PackageReference: LT-S8-8; PackageDescription: 8-Pin Plastic Small Outline, Body 4.9 x 3.9 mm, Pitch 1.27 mm; Supplier 1: Digi-Key; Supplier Part Number 1: LT1358CS8#TR-ND; Is (mA) Typical: 2; Packing: Reel; Type: VFB; Mounting Technology: Surface Mount; ComponentLink1Description: Manufacturer URL; ComponentLink1URL: http://www.linear.com/; ComponentLink2Description: Datasheet; ComponentLink2URL: http://cds.linear.com/docs/en/datasheet/135859fb.pdf; ComponentLink3Description: Package Specification; ComponentLink3URL: http://cds.linear.com/docs/en/packaging/05081610_G_SO8.pdf
footprint LT-S8-8_N (SOIC, 8-Leads, Body 4.9x3.9mm, Pitch 1.27mm, IPC Medium Density)
footprint LT-S8-8_L (SOIC, 8-Leads, Body 4.9x3.9mm, Pitch 1.27mm, IPC High Density)
footprint LT-S8-8_M (SOIC, 8-Leads, Body 4.9x3.9mm, Pitch 1.27mm, IPC Low Density)
pins: 1 NULL (in), 2 -IN (in), 3 +IN (in), 4 V- (power), 5 NC, 6 VOUT (out), 7 V+ (power), 8 NULL (in)

## LT1358CS8#TRPBF
designator U?
Dual Channel, High Speed Precision Operational Amplifier, 25 MHz Typical GBW, 600 V/us Typical SR, 5 to 36 V, 8-Pin SOIC (S8-8), Commerical, Pb-Free, Reel; Linear Technology Part Number: LT1358; Manufacturer: Linear Technology; PartNumber: LT1358CS8#TRPBF; Channels (#): 2; GBW (MHz) Typical: 25; SR (V/us) Typical: 600; Vos (mV) Typical: 0.2; Vs Max (V): 36; Vs Min (V): 5; DatasheetVersion: Rev. B; PackageVersion: Rev G; PackageReference: LT-S8-8; PackageDescription: 8-Pin Plastic Small Outline, Body 4.9 x 3.9 mm, Pitch 1.27 mm; Supplier 1: Digi-Key; Supplier Part Number 1: LT1358CS8#TRPBF-ND; Supplier 2: Newark; Supplier Part Number 2: 57M3457; Is (mA) Typical: 2; Packing: Reel; RoHS: Pb-Free; Type: VFB; Mounting Technology: Surface Mount; ComponentLink1Description: Manufacturer URL; ComponentLink1URL: http://www.linear.com/; ComponentLink2Description: Datasheet; ComponentLink2URL: http://cds.linear.com/docs/en/datasheet/135859fb.pdf; ComponentLink3Description: Package Specification; ComponentLink3URL: http://cds.linear.com/docs/en/packaging/05081610_G_SO8.pdf
footprint LT-S8-8_N (SOIC, 8-Leads, Body 4.9x3.9mm, Pitch 1.27mm, IPC Medium Density)
footprint LT-S8-8_L (SOIC, 8-Leads, Body 4.9x3.9mm, Pitch 1.27mm, IPC High Density)
footprint LT-S8-8_M (SOIC, 8-Leads, Body 4.9x3.9mm, Pitch 1.27mm, IPC Low Density)
pins: 1 NULL (in), 2 -IN (in), 3 +IN (in), 4 V- (power), 5 NC, 6 VOUT (out), 7 V+ (power), 8 NULL (in)

## LT1358IN8
designator U?
Dual Channel, High Speed Precision Operational Amplifier, 25 MHz Typical GBW, 600 V/us Typical SR, 5 to 36 V, 8-Pin DIP (N8-8), Industrial; Linear Technology Part Number: LT1358; Manufacturer: Linear Technology; PartNumber: LT1358IN8; Channels (#): 2; GBW (MHz) Typical: 25; SR (V/us) Typical: 600; Vos (mV) Typical: 0.2; Vs Max (V): 36; Vs Min (V): 5; DatasheetVersion: Rev. B; PackageVersion: Rev I; PackageReference: LT-N8-8; PackageDescription: 8-Lead PDIP, Body 10.16 x 6.48 mm, Pitch 2.54 mm; Is (mA) Typical: 2; Type: VFB; Mounting Technology: Surface Mount; ComponentLink1Description: Manufacturer URL; ComponentLink1URL: http://www.linear.com/; ComponentLink2Description: Datasheet; ComponentLink2URL: http://cds.linear.com/docs/en/datasheet/135859fb.pdf; ComponentLink3Description: Package Specification; ComponentLink3URL: http://cds.linear.com/docs/en/packaging/05081510_I_N8.pdf
footprint LT-N8-8 (DIP, 8-Leads, Body 10.16x6.48mm, Pitch 2.54mm)
pins: 1 NULL (in), 2 -IN (in), 3 +IN (in), 4 V- (power), 5 NC, 6 VOUT (out), 7 V+ (power), 8 NULL (in)

## LT1358IN8#PBF
designator U?
Dual Channel, High Speed Precision Operational Amplifier, 25 MHz Typical GBW, 600 V/us Typical SR, 5 to 36 V, 8-Pin DIP (N8-8), Industrial, Pb-Free; Linear Technology Part Number: LT1358; Manufacturer: Linear Technology; PartNumber: LT1358IN8#PBF; Channels (#): 2; GBW (MHz) Typical: 25; SR (V/us) Typical: 600; Vos (mV) Typical: 0.2; Vs Max (V): 36; Vs Min (V): 5; DatasheetVersion: Rev. B; PackageVersion: Rev I; PackageReference: LT-N8-8; PackageDescription: 8-Lead PDIP, Body 10.16 x 6.48 mm, Pitch 2.54 mm; Supplier 1: Digi-Key; Supplier Part Number 1: LT1358IN8#PBF-ND; Is (mA) Typical: 2; RoHS: Pb-Free; Type: VFB; Mounting Technology: Through Hole; ComponentLink1Description: Manufacturer URL; ComponentLink1URL: http://www.linear.com/; ComponentLink2Description: Datasheet; ComponentLink2URL: http://cds.linear.com/docs/en/datasheet/135859fb.pdf; ComponentLink3Description: Package Specification; ComponentLink3URL: http://cds.linear.com/docs/en/packaging/05081510_I_N8.pdf
footprint LT-N8-8 (DIP, 8-Leads, Body 10.16x6.48mm, Pitch 2.54mm)
pins: 1 NULL (in), 2 -IN (in), 3 +IN (in), 4 V- (power), 5 NC, 6 VOUT (out), 7 V+ (power), 8 NULL (in)

## LT1358IS8
designator U?
Dual Channel, High Speed Precision Operational Amplifier, 25 MHz Typical GBW, 600 V/us Typical SR, 5 to 36 V, 8-Pin SOIC (S8-8), Industrial; Linear Technology Part Number: LT1358; Manufacturer: Linear Technology; PartNumber: LT1358IS8; Channels (#): 2; GBW (MHz) Typical: 25; SR (V/us) Typical: 600; Vos (mV) Typical: 0.2; Vs Max (V): 36; Vs Min (V): 5; DatasheetVersion: Rev. B; PackageVersion: Rev G; PackageReference: LT-S8-8; PackageDescription: 8-Pin Plastic Small Outline, Body 4.9 x 3.9 mm, Pitch 1.27 mm; Is (mA) Typical: 2; Type: VFB; Mounting Technology: Surface Mount; ComponentLink1Description: Manufacturer URL; ComponentLink1URL: http://www.linear.com/; ComponentLink2Description: Datasheet; ComponentLink2URL: http://cds.linear.com/docs/en/datasheet/135859fb.pdf; ComponentLink3Description: Package Specification; ComponentLink3URL: http://cds.linear.com/docs/en/packaging/05081610_G_SO8.pdf
footprint LT-S8-8_N (SOIC, 8-Leads, Body 4.9x3.9mm, Pitch 1.27mm, IPC Medium Density)
footprint LT-S8-8_L (SOIC, 8-Leads, Body 4.9x3.9mm, Pitch 1.27mm, IPC High Density)
footprint LT-S8-8_M (SOIC, 8-Leads, Body 4.9x3.9mm, Pitch 1.27mm, IPC Low Density)
pins on every part: 4 V- (power), 8 V+ (power)
part A pins: 1 OUT A (out), 2 -IN A (in), 3 +IN A (in)
part B pins: 5 +IN B (in), 6 -IN B (in), 7 OUT B (out)

## LT1358IS8#PBF
designator U?
Dual Channel, High Speed Precision Operational Amplifier, 25 MHz Typical GBW, 600 V/us Typical SR, 5 to 36 V, 8-Pin SOIC (S8-8), Industrial, Pb-Free; Linear Technology Part Number: LT1358; Manufacturer: Linear Technology; PartNumber: LT1358IS8#PBF; Channels (#): 2; GBW (MHz) Typical: 25; SR (V/us) Typical: 600; Vos (mV) Typical: 0.2; Vs Max (V): 36; Vs Min (V): 5; DatasheetVersion: Rev. B; PackageVersion: Rev G; PackageReference: LT-S8-8; PackageDescription: 8-Pin Plastic Small Outline, Body 4.9 x 3.9 mm, Pitch 1.27 mm; Supplier 1: Digi-Key; Supplier Part Number 1: LT1358IS8#PBF-ND; Supplier 2: Farnell; Supplier Part Number 2: 2294676; Supplier 3: Newark; Supplier Part Number 3: 57M3461; Is (mA) Typical: 2; RoHS: Pb-Free; Type: VFB; Mounting Technology: Surface Mount; ComponentLink1Description: Manufacturer URL; ComponentLink1URL: http://www.linear.com/; ComponentLink2Description: Datasheet; ComponentLink2URL: http://cds.linear.com/docs/en/datasheet/135859fb.pdf; ComponentLink3Description: Package Specification; ComponentLink3URL: http://cds.linear.com/docs/en/packaging/05081610_G_SO8.pdf
footprint LT-S8-8_N (SOIC, 8-Leads, Body 4.9x3.9mm, Pitch 1.27mm, IPC Medium Density)
footprint LT-S8-8_L (SOIC, 8-Leads, Body 4.9x3.9mm, Pitch 1.27mm, IPC High Density)
footprint LT-S8-8_M (SOIC, 8-Leads, Body 4.9x3.9mm, Pitch 1.27mm, IPC Low Density)
pins: 1 NULL (in), 2 -IN (in), 3 +IN (in), 4 V- (power), 5 NC, 6 VOUT (out), 7 V+ (power), 8 NULL (in)

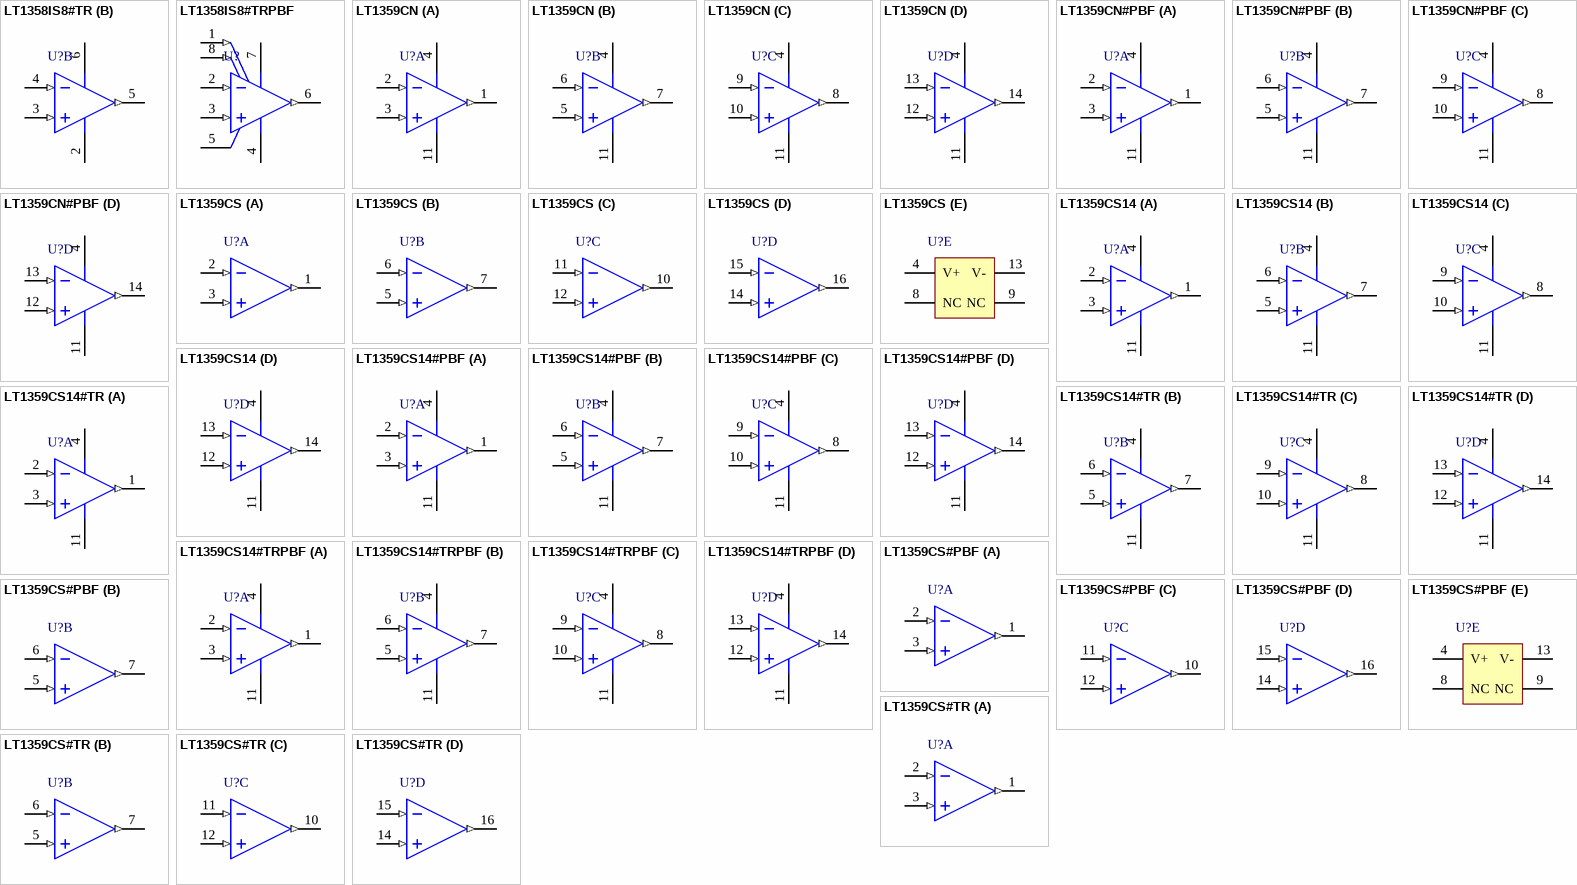
[diagram p28: symbols LT1358IS8#TR to LT1359CS#TR]

## LT1358IS8#TR
designator U?
Dual Channel, High Speed Precision Operational Amplifier, 25 MHz Typical GBW, 600 V/us Typical SR, 5 to 36 V, 8-Pin SOIC (S8-8), Industrial, Reel; Linear Technology Part Number: LT1358; Manufacturer: Linear Technology; PartNumber: LT1358IS8#TR; Channels (#): 2; GBW (MHz) Typical: 25; SR (V/us) Typical: 600; Vos (mV) Typical: 0.2; Vs Max (V): 36; Vs Min (V): 5; DatasheetVersion: Rev. B; PackageVersion: Rev G; PackageReference: LT-S8-8; PackageDescription: 8-Pin Plastic Small Outline, Body 4.9 x 3.9 mm, Pitch 1.27 mm; Is (mA) Typical: 2; Packing: Reel; Type: VFB; Mounting Technology: Surface Mount; ComponentLink1Description: Manufacturer URL; ComponentLink1URL: http://www.linear.com/; ComponentLink2Description: Datasheet; ComponentLink2URL: http://cds.linear.com/docs/en/datasheet/135859fb.pdf; ComponentLink3Description: Package Specification; ComponentLink3URL: http://cds.linear.com/docs/en/packaging/05081610_G_SO8.pdf
footprint LT-S8-8_N (SOIC, 8-Leads, Body 4.9x3.9mm, Pitch 1.27mm, IPC Medium Density)
footprint LT-S8-8_L (SOIC, 8-Leads, Body 4.9x3.9mm, Pitch 1.27mm, IPC High Density)
footprint LT-S8-8_M (SOIC, 8-Leads, Body 4.9x3.9mm, Pitch 1.27mm, IPC Low Density)
pins on every part: 2 V- (power), 6 V+ (power)
part A pins: 1 +IN A (in), 7 OUT A (out), 8 -IN A (in)
part B pins: 3 +IN B (in), 4 -IN B (in), 5 OUT B (out)

## LT1358IS8#TRPBF
designator U?
Dual Channel, High Speed Precision Operational Amplifier, 25 MHz Typical GBW, 600 V/us Typical SR, 5 to 36 V, 8-Pin SOIC (S8-8), Industrial, Pb-Free, Reel; Linear Technology Part Number: LT1358; Manufacturer: Linear Technology; PartNumber: LT1358IS8#TRPBF; Channels (#): 2; GBW (MHz) Typical: 25; SR (V/us) Typical: 600; Vos (mV) Typical: 0.2; Vs Max (V): 36; Vs Min (V): 5; DatasheetVersion: Rev. B; PackageVersion: Rev G; PackageReference: LT-S8-8; PackageDescription: 8-Pin Plastic Small Outline, Body 4.9 x 3.9 mm, Pitch 1.27 mm; Supplier 1: Digi-Key; Supplier Part Number 1: LT1358IS8#TRPBF-ND; Is (mA) Typical: 2; Packing: Reel; RoHS: Pb-Free; Type: VFB; Mounting Technology: Surface Mount; ComponentLink1Description: Manufacturer URL; ComponentLink1URL: http://www.linear.com/; ComponentLink2Description: Datasheet; ComponentLink2URL: http://cds.linear.com/docs/en/datasheet/135859fb.pdf; ComponentLink3Description: Package Specification; ComponentLink3URL: http://cds.linear.com/docs/en/packaging/05081610_G_SO8.pdf
footprint LT-S8-8_N (SOIC, 8-Leads, Body 4.9x3.9mm, Pitch 1.27mm, IPC Medium Density)
footprint LT-S8-8_L (SOIC, 8-Leads, Body 4.9x3.9mm, Pitch 1.27mm, IPC High Density)
footprint LT-S8-8_M (SOIC, 8-Leads, Body 4.9x3.9mm, Pitch 1.27mm, IPC Low Density)
pins: 1 NULL (in), 2 -IN (in), 3 +IN (in), 4 V- (power), 5 NC, 6 VOUT (out), 7 V+ (power), 8 NULL (in)

## LT1359CN
designator U?
Quad Channel, High Speed Precision Operational Amplifier, 25 MHz Typical GBW, 600 V/us Typical SR, 5 to 36 V, 14-Pin DIP (N-14), Commerical; Linear Technology Part Number: LT1359; Manufacturer: Linear Technology; PartNumber: LT1359CN; Channels (#): 4; GBW (MHz) Typical: 25; Is (mA) Typical: 2; SR (V/us) Typical: 600; Vos (mV) Typical: 0.2; Vs Max (V): 36; Vs Min (V): 5; DatasheetVersion: Rev. B; PackageVersion: Rev I; PackageReference: LT-N-14; PackageDescription: 14-Lead PDIP, Body 19.558 x 6.477 mm, Pitch 2.54 mm; Supplier 1: Digi-Key; Supplier Part Number 1: LT1359CN-ND; Supplier 2: Newark; Supplier Part Number 2: 57M3464; Type: VFB; Mounting Technology: Surface Mount; ComponentLink1Description: Manufacturer URL; ComponentLink1URL: http://www.linear.com/; ComponentLink2Description: Datasheet; ComponentLink2URL: http://cds.linear.com/docs/en/datasheet/135859fb.pdf; ComponentLink3Description: Package Specification; ComponentLink3URL: http://cds.linear.com/docs/en/packaging/05081510_I_N14.pdf
footprint LT-N-14 (DIP, 14-Leads, Body 19.558x6.477mm, Pitch 2.54mm)
pins on every part: 4 V+ (power), 11 V- (power)
part A pins: 1 OUT A (out), 2 -IN A (in), 3 +IN A (in)
part B pins: 5 +IN B (in), 6 -IN B (in), 7 OUT B (out)
part C pins: 8 OUT C (out), 9 -IN C (in), 10 +IN C (in)
part D pins: 12 +IN D (in), 13 -IN D (in), 14 OUT D (out)

## LT1359CN#PBF
designator U?
Quad Channel, High Speed Precision Operational Amplifier, 25 MHz Typical GBW, 600 V/us Typical SR, 5 to 36 V, 14-Pin DIP (N-14), Commerical, Pb-Free; Linear Technology Part Number: LT1359; Manufacturer: Linear Technology; PartNumber: LT1359CN#PBF; Channels (#): 4; GBW (MHz) Typical: 25; Is (mA) Typical: 2; SR (V/us) Typical: 600; Vos (mV) Typical: 0.2; Vs Max (V): 36; Vs Min (V): 5; DatasheetVersion: Rev. B; PackageVersion: Rev I; PackageReference: LT-N-14; PackageDescription: 14-Lead PDIP, Body 19.558 x 6.477 mm, Pitch 2.54 mm; Supplier 1: Digi-Key; Supplier Part Number 1: LT1359CN#PBF-ND; Supplier 2: Newark; Supplier Part Number 2: 57M3465; RoHS: Pb-Free; Type: VFB; Mounting Technology: Through Hole; ComponentLink1Description: Manufacturer URL; ComponentLink1URL: http://www.linear.com/; ComponentLink2Description: Datasheet; ComponentLink2URL: http://cds.linear.com/docs/en/datasheet/135859fb.pdf; ComponentLink3Description: Package Specification; ComponentLink3URL: http://cds.linear.com/docs/en/packaging/05081510_I_N14.pdf
footprint LT-N-14 (DIP, 14-Leads, Body 19.558x6.477mm, Pitch 2.54mm)
pins on every part: 4 V+ (power), 11 V- (power)
part A pins: 1 OUT A (out), 2 -IN A (in), 3 +IN A (in)
part B pins: 5 +IN B (in), 6 -IN B (in), 7 OUT B (out)
part C pins: 8 OUT C (out), 9 -IN C (in), 10 +IN C (in)
part D pins: 12 +IN D (in), 13 -IN D (in), 14 OUT D (out)

## LT1359CS
designator U?
Quad Channel, High Speed Precision Operational Amplifier, 25 MHz Typical GBW, 600 V/us Typical SR, 5 to 36 V, 16-Pin SOIC (S-16), Commerical; Linear Technology Part Number: LT1359; Manufacturer: Linear Technology; PartNumber: LT1359CS; Channels (#): 4; GBW (MHz) Typical: 25; Is (mA) Typical: 2; SR (V/us) Typical: 600; Vos (mV) Typical: 0.2; Vs Max (V): 36; Vs Min (V): 5; DatasheetVersion: Rev. B; PackageVersion: Rev G; PackageReference: LT-S-16; PackageDescription: 16-Lead Plastic Small Outline, Body 9.9 x 3.9 mm, Pitch 1.27 mm; Supplier 1: Digi-Key; Supplier Part Number 1: LT1359CS-ND; Type: VFB; Mounting Technology: Surface Mount; ComponentLink1Description: Manufacturer URL; ComponentLink1URL: http://www.linear.com/; ComponentLink2Description: Datasheet; ComponentLink2URL: http://cds.linear.com/docs/en/datasheet/135859fb.pdf; ComponentLink3Description: Package Specification; ComponentLink3URL: http://cds.linear.com/docs/en/packaging/S16%2005-08-1610%20Rev%20G.pdf
footprint LT-S-16_N (SOP, 16-Leads, Body 9.9x3.9mm, Pitch 1.27mm, IPC Medium Density)
footprint LT-S-16_L (SOP, 16-Leads, Body 9.9x3.9mm, Pitch 1.27mm, IPC High Density)
footprint LT-S-16_M (SOP, 16-Leads, Body 9.9x3.9mm, Pitch 1.27mm, IPC Low Density)
part A pins: 1 OUT A (out), 2 -IN A (in), 3 +IN A (in)
part B pins: 5 +IN B (in), 6 -IN B (in), 7 OUT B (out)
part C pins: 10 OUT C (out), 11 -IN C (in), 12 +IN C (in)
part D pins: 14 +IN D (in), 15 -IN D (in), 16 OUT D (out)
part E pins: 4 V+ (power), 8 NC, 9 NC, 13 V- (power)

## LT1359CS14
designator U?
Quad Channel, High Speed Precision Operational Amplifier, 25 MHz Typical GBW, 600 V/us Typical SR, 5 to 36 V, 14-Pin SOIC (S-14), Commerical; Linear Technology Part Number: LT1359; Manufacturer: Linear Technology; PartNumber: LT1359CS14; Channels (#): 4; GBW (MHz) Typical: 25; Is (mA) Typical: 2; SR (V/us) Typical: 600; Vos (mV) Typical: 0.2; Vs Max (V): 36; Vs Min (V): 5; DatasheetVersion: Rev. B; PackageVersion: Rev G; PackageReference: LT-S-14; PackageDescription: 14-Lead Plastic Small Outline, Body 8.65 x 3.90 mm, Pitch 1.27 mm; Type: VFB; Mounting Technology: Surface Mount; ComponentLink1Description: Manufacturer URL; ComponentLink1URL: http://www.linear.com/; ComponentLink2Description: Datasheet; ComponentLink2URL: http://cds.linear.com/docs/en/datasheet/135859fb.pdf; ComponentLink3Description: Package Specification; ComponentLink3URL: http://cds.linear.com/docs/en/packaging/05081610_G_S14.pdf
footprint LT-S-14_N (SOIC, 14-Leads, Body 8.65x3.90mm, Pitch 1.27mm, IPC Medium Density)
footprint LT-S-14_L (SOIC, 14-Leads, Body 8.65x3.90mm, Pitch 1.27mm, IPC High Density)
footprint LT-S-14_M (SOIC, 14-Leads, Body 8.65x3.90mm, Pitch 1.27mm, IPC Low Density)
pins on every part: 4 V+ (power), 11 V- (power)
part A pins: 1 OUT A (out), 2 -IN A (in), 3 +IN A (in)
part B pins: 5 +IN B (in), 6 -IN B (in), 7 OUT B (out)
part C pins: 8 OUT C (out), 9 -IN C (in), 10 +IN C (in)
part D pins: 12 +IN D (in), 13 -IN D (in), 14 OUT D (out)

## LT1359CS14#PBF
designator U?
Quad Channel, High Speed Precision Operational Amplifier, 25 MHz Typical GBW, 600 V/us Typical SR, 5 to 36 V, 14-Pin SOIC (S-14), Commerical, Pb-Free; Linear Technology Part Number: LT1359; Manufacturer: Linear Technology; PartNumber: LT1359CS14#PBF; Channels (#): 4; GBW (MHz) Typical: 25; Is (mA) Typical: 2; SR (V/us) Typical: 600; Vos (mV) Typical: 0.2; Vs Max (V): 36; Vs Min (V): 5; DatasheetVersion: Rev. B; PackageVersion: Rev G; PackageReference: LT-S-14; PackageDescription: 14-Lead Plastic Small Outline, Body 8.65 x 3.90 mm, Pitch 1.27 mm; Supplier 1: Digi-Key; Supplier Part Number 1: LT1359CS14#PBF-ND; Supplier 2: Newark; Supplier Part Number 2: 57M3471; RoHS: Pb-Free; Type: VFB; Mounting Technology: Surface Mount; ComponentLink1Description: Manufacturer URL; ComponentLink1URL: http://www.linear.com/; ComponentLink2Description: Datasheet; ComponentLink2URL: http://cds.linear.com/docs/en/datasheet/135859fb.pdf; ComponentLink3Description: Package Specification; ComponentLink3URL: http://cds.linear.com/docs/en/packaging/05081610_G_S14.pdf
footprint LT-S-14_N (SOIC, 14-Leads, Body 8.65x3.90mm, Pitch 1.27mm, IPC Medium Density)
footprint LT-S-14_L (SOIC, 14-Leads, Body 8.65x3.90mm, Pitch 1.27mm, IPC High Density)
footprint LT-S-14_M (SOIC, 14-Leads, Body 8.65x3.90mm, Pitch 1.27mm, IPC Low Density)
pins on every part: 4 V+ (power), 11 V- (power)
part A pins: 1 OUT A (out), 2 -IN A (in), 3 +IN A (in)
part B pins: 5 +IN B (in), 6 -IN B (in), 7 OUT B (out)
part C pins: 8 OUT C (out), 9 -IN C (in), 10 +IN C (in)
part D pins: 12 +IN D (in), 13 -IN D (in), 14 OUT D (out)

## LT1359CS14#TR
designator U?
Quad Channel, High Speed Precision Operational Amplifier, 25 MHz Typical GBW, 600 V/us Typical SR, 5 to 36 V, 14-Pin SOIC (S-14), Commerical, Reel; Linear Technology Part Number: LT1359; Manufacturer: Linear Technology; PartNumber: LT1359CS14#TR; Channels (#): 4; GBW (MHz) Typical: 25; Is (mA) Typical: 2; SR (V/us) Typical: 600; Vos (mV) Typical: 0.2; Vs Max (V): 36; Vs Min (V): 5; DatasheetVersion: Rev. B; PackageVersion: Rev G; PackageReference: LT-S-14; PackageDescription: 14-Lead Plastic Small Outline, Body 8.65 x 3.90 mm, Pitch 1.27 mm; Packing: Reel; Type: VFB; Mounting Technology: Surface Mount; ComponentLink1Description: Manufacturer URL; ComponentLink1URL: http://www.linear.com/; ComponentLink2Description: Datasheet; ComponentLink2URL: http://cds.linear.com/docs/en/datasheet/135859fb.pdf; ComponentLink3Description: Package Specification; ComponentLink3URL: http://cds.linear.com/docs/en/packaging/05081610_G_S14.pdf
footprint LT-S-14_N (SOIC, 14-Leads, Body 8.65x3.90mm, Pitch 1.27mm, IPC Medium Density)
footprint LT-S-14_L (SOIC, 14-Leads, Body 8.65x3.90mm, Pitch 1.27mm, IPC High Density)
footprint LT-S-14_M (SOIC, 14-Leads, Body 8.65x3.90mm, Pitch 1.27mm, IPC Low Density)
pins on every part: 4 V+ (power), 11 V- (power)
part A pins: 1 OUT A (out), 2 -IN A (in), 3 +IN A (in)
part B pins: 5 +IN B (in), 6 -IN B (in), 7 OUT B (out)
part C pins: 8 OUT C (out), 9 -IN C (in), 10 +IN C (in)
part D pins: 12 +IN D (in), 13 -IN D (in), 14 OUT D (out)

## LT1359CS14#TRPBF
designator U?
Quad Channel, High Speed Precision Operational Amplifier, 25 MHz Typical GBW, 600 V/us Typical SR, 5 to 36 V, 14-Pin SOIC (S-14), Commerical, Pb-Free, Reel; Linear Technology Part Number: LT1359; Manufacturer: Linear Technology; PartNumber: LT1359CS14#TRPBF; Channels (#): 4; GBW (MHz) Typical: 25; Is (mA) Typical: 2; SR (V/us) Typical: 600; Vos (mV) Typical: 0.2; Vs Max (V): 36; Vs Min (V): 5; DatasheetVersion: Rev. B; PackageVersion: Rev G; PackageReference: LT-S-14; PackageDescription: 14-Lead Plastic Small Outline, Body 8.65 x 3.90 mm, Pitch 1.27 mm; Supplier 1: Digi-Key; Supplier Part Number 1: LT1359CS14#TRPBF-ND; Packing: Reel; RoHS: Pb-Free; Type: VFB; Mounting Technology: Surface Mount; ComponentLink1Description: Manufacturer URL; ComponentLink1URL: http://www.linear.com/; ComponentLink2Description: Datasheet; ComponentLink2URL: http://cds.linear.com/docs/en/datasheet/135859fb.pdf; ComponentLink3Description: Package Specification; ComponentLink3URL: http://cds.linear.com/docs/en/packaging/05081610_G_S14.pdf
footprint LT-S-14_N (SOIC, 14-Leads, Body 8.65x3.90mm, Pitch 1.27mm, IPC Medium Density)
footprint LT-S-14_L (SOIC, 14-Leads, Body 8.65x3.90mm, Pitch 1.27mm, IPC High Density)
footprint LT-S-14_M (SOIC, 14-Leads, Body 8.65x3.90mm, Pitch 1.27mm, IPC Low Density)
pins on every part: 4 V+ (power), 11 V- (power)
part A pins: 1 OUT A (out), 2 -IN A (in), 3 +IN A (in)
part B pins: 5 +IN B (in), 6 -IN B (in), 7 OUT B (out)
part C pins: 8 OUT C (out), 9 -IN C (in), 10 +IN C (in)
part D pins: 12 +IN D (in), 13 -IN D (in), 14 OUT D (out)